# Altium footprint library SAMTEC_SSW-110-22-G-D-VS.PcbLib: 1 footprints
Each footprint in its own frame and in the unit in brackets; x right, y up, seen from the top. Pads: shape width x height; smd on the part's side, far side on the other; paste and mask are expansions set on the pad; w line width, h text height; cw(c..) or ccw(c..) is an arc to the next point about the centre after c.
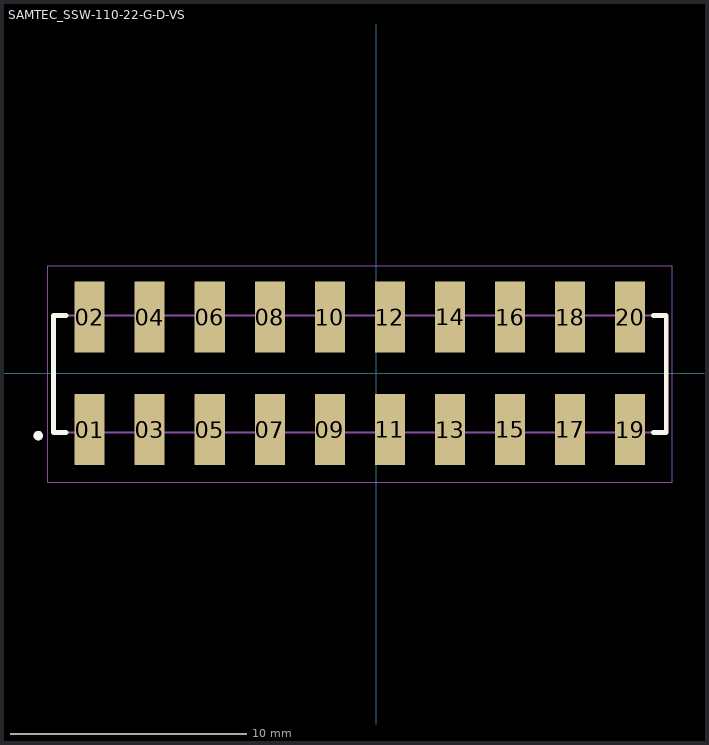
[diagram p0: the footprint, top view; thin cyan lines are the x and y axes]

## SAMTEC_SSW-110-22-G-D-VS [mm]
pads (20):
  rect 1.27x3 smd: 01(-12.13,-2.376) 02(-12.13,2.378) 03(-9.59,-2.376) 04(-9.59,2.378) 05(-7.05,-2.376) 06(-7.05,2.378) 07(-4.51,-2.376) 08(-4.51,2.378) 09(-1.97,-2.376) 10(-1.97,2.378) 11(0.57,-2.376) 12(0.57,2.378) 13(3.11,-2.376) 14(3.11,2.378) 15(5.65,-2.376) 16(5.65,2.378) 17(8.19,-2.376) 18(8.19,2.378) 19(10.73,-2.376) 20(10.73,2.378)
Top Overlay:
  circle w0.2: c-14.305,-2.63 r0.1
  lines w0.2: -13.115,-2.5 -13.655,-2.5 -13.655,2.45 -13.115,2.45 ; 11.715,-2.5 12.255,-2.5 12.255,2.45 11.715,2.45
Mechanical 13:
  circle w0.2: c-14.305,-2.63 r0.1
  lines w0.1: -13.655,-2.5 -13.655,2.45 ; -13.655,-2.5 12.255,-2.5 ; -13.655,-2.5 -13.655,2.45 ; -13.655,2.45 12.255,2.45 ; -13.655,2.45 12.255,2.45 ; 12.255,-2.5 12.255,2.45 ; 12.255,-2.5 12.255,2.45
Mechanical 15:
  lines w0.05: -13.905,-4.595 -13.905,4.545 12.505,4.545 12.505,-4.595 -13.905,-4.595
3D body "SSW-110-22-G-D-VS.stp": height 9.81, standoff 0.03, extent -13.654,-3.962 12.254,3.912